# Altium integrated library ALTIUM-WE-PD-rev19a.IntLib: 320 symbols (part 2 of 5)
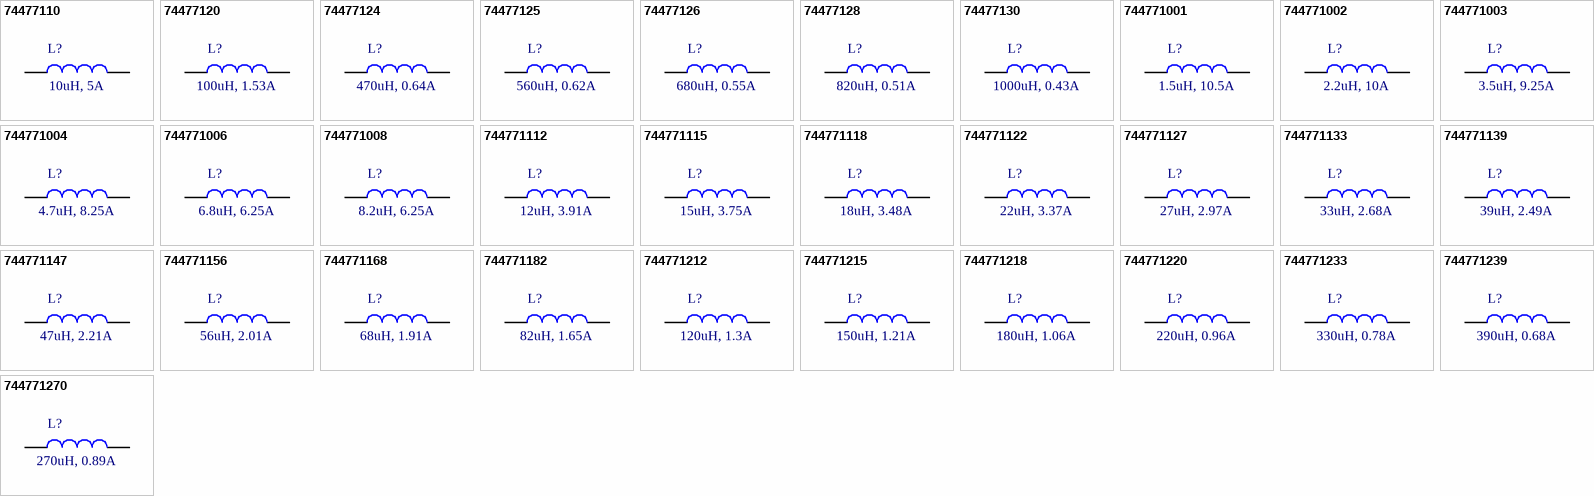
[diagram p15: symbols 74477110 to 744771270]

## 744771127
designator L?, comment 27uH, 2.97A
WE-PD SMT Power Inductor, size 1260, 27uH, 2.97A; Part Number: 744771127; DC Resistance max.: 51mOhm; Self Resonant Frequency: 12MHz; Saturation Current: 3.55A; ComponentLink1Description: Manufacturer; ComponentLink1URL: http://www.we-online.de; ComponentLink2Description: Datasheet; ComponentLink2URL: https://katalog.we-online.com/pbs/datasheet/744771127.pdf; Published Date: April 2019; Publisher: Wurth Elektronik; Rated Current: 2.97A; Size: 1260; Inductance: 27uH; Operating Temperature: -40 to +125degC; Mounting Technology: SMT; Packaging: Tape and Reel
footprint WE-PD_1260
pins: 1, 2

## 744771133
designator L?, comment 33uH, 2.68A
WE-PD SMT Power Inductor, size 1260, 33uH, 2.68A; Part Number: 744771133; DC Resistance max.: 57mOhm; Self Resonant Frequency: 11MHz; Saturation Current: 3A; ComponentLink1Description: Manufacturer; ComponentLink1URL: http://www.we-online.de; ComponentLink2Description: Datasheet; ComponentLink2URL: https://katalog.we-online.com/pbs/datasheet/744771133.pdf; Published Date: April 2019; Publisher: Wurth Elektronik; Rated Current: 2.68A; Size: 1260; Inductance: 33uH; Operating Temperature: -40 to +125degC; Mounting Technology: SMT; Packaging: Tape and Reel
footprint WE-PD_1260
pins: 1, 2

## 744771139
designator L?, comment 39uH, 2.49A
WE-PD SMT Power Inductor, size 1260, 39uH, 2.49A; Part Number: 744771139; DC Resistance max.: 68mOhm; Self Resonant Frequency: 10MHz; Saturation Current: 2.74A; ComponentLink1Description: Manufacturer; ComponentLink1URL: http://www.we-online.de; ComponentLink2Description: Datasheet; ComponentLink2URL: https://katalog.we-online.com/pbs/datasheet/744771139.pdf; Published Date: April 2019; Publisher: Wurth Elektronik; Rated Current: 2.49A; Size: 1260; Inductance: 39uH; Operating Temperature: -40 to +125degC; Mounting Technology: SMT; Packaging: Tape and Reel
footprint WE-PD_1260
pins: 1, 2

## 744771147
designator L?, comment 47uH, 2.21A
WE-PD SMT Power Inductor, size 1260, 47uH, 2.21A; Part Number: 744771147; DC Resistance max.: 75mOhm; Self Resonant Frequency: 9.2MHz; Saturation Current: 2.6A; ComponentLink1Description: Manufacturer; ComponentLink1URL: http://www.we-online.de; ComponentLink2Description: Datasheet; ComponentLink2URL: https://katalog.we-online.com/pbs/datasheet/744771147.pdf; Published Date: April 2019; Publisher: Wurth Elektronik; Rated Current: 2.21A; Size: 1260; Inductance: 47uH; Operating Temperature: -40 to +125degC; Mounting Technology: SMT; Packaging: Tape and Reel
footprint WE-PD_1260
pins: 1, 2

## 744771156
designator L?, comment 56uH, 2.01A
WE-PD SMT Power Inductor, size 1260, 56uH, 2.01A; Part Number: 744771156; DC Resistance max.: 110mOhm; Self Resonant Frequency: 8MHz; Saturation Current: 2.35A; ComponentLink1Description: Manufacturer; ComponentLink1URL: http://www.we-online.de; ComponentLink2Description: Datasheet; ComponentLink2URL: https://katalog.we-online.com/pbs/datasheet/744771156.pdf; Published Date: April 2019; Publisher: Wurth Elektronik; Rated Current: 2.01A; Size: 1260; Inductance: 56uH; Operating Temperature: -40 to +125degC; Mounting Technology: SMT; Packaging: Tape and Reel
footprint WE-PD_1260
pins: 1, 2

## 744771168
designator L?, comment 68uH, 1.91A
WE-PD SMT Power Inductor, size 1260, 68uH, 1.91A; Part Number: 744771168; DC Resistance max.: 120mOhm; Self Resonant Frequency: 7.6MHz; Saturation Current: 2.19A; ComponentLink1Description: Manufacturer; ComponentLink1URL: http://www.we-online.de; ComponentLink2Description: Datasheet; ComponentLink2URL: https://katalog.we-online.com/pbs/datasheet/744771168.pdf; Published Date: April 2019; Publisher: Wurth Elektronik; Rated Current: 1.91A; Size: 1260; Inductance: 68uH; Operating Temperature: -40 to +125degC; Mounting Technology: SMT; Packaging: Tape and Reel
footprint WE-PD_1260
pins: 1, 2

## 744771182
designator L?, comment 82uH, 1.65A
WE-PD SMT Power Inductor, size 1260, 82uH, 1.65A; Part Number: 744771182; DC Resistance max.: 140mOhm; Self Resonant Frequency: 7.2MHz; Saturation Current: 1.88A; ComponentLink1Description: Manufacturer; ComponentLink1URL: http://www.we-online.de; ComponentLink2Description: Datasheet; ComponentLink2URL: https://katalog.we-online.com/pbs/datasheet/744771182.pdf; Published Date: April 2019; Publisher: Wurth Elektronik; Rated Current: 1.65A; Size: 1260; Inductance: 82uH; Operating Temperature: -40 to +125degC; Mounting Technology: SMT; Packaging: Tape and Reel
footprint WE-PD_1260
pins: 1, 2

## 744771212
designator L?, comment 120uH, 1.3A
WE-PD SMT Power Inductor, size 1260, 120uH, 1.3A; Part Number: 744771212; DC Resistance max.: 170mOhm; Self Resonant Frequency: 5.2MHz; Saturation Current: 1.56A; ComponentLink1Description: Manufacturer; ComponentLink1URL: http://www.we-online.de; ComponentLink2Description: Datasheet; ComponentLink2URL: https://katalog.we-online.com/pbs/datasheet/744771212.pdf; Published Date: April 2019; Publisher: Wurth Elektronik; Rated Current: 1.3A; Size: 1260; Inductance: 120uH; Operating Temperature: -40 to +125degC; Mounting Technology: SMT; Packaging: Tape and Reel
footprint WE-PD_1260
pins: 1, 2

## 744771215
designator L?, comment 150uH, 1.21A
WE-PD SMT Power Inductor, size 1260, 150uH, 1.21A; Part Number: 744771215; DC Resistance max.: 230mOhm; Self Resonant Frequency: 4.4MHz; Saturation Current: 1.43A; ComponentLink1Description: Manufacturer; ComponentLink1URL: http://www.we-online.de; ComponentLink2Description: Datasheet; ComponentLink2URL: https://katalog.we-online.com/pbs/datasheet/744771215.pdf; Published Date: April 2019; Publisher: Wurth Elektronik; Rated Current: 1.21A; Size: 1260; Inductance: 150uH; Operating Temperature: -40 to +125degC; Mounting Technology: SMT; Packaging: Tape and Reel
footprint WE-PD_1260
pins: 1, 2

## 744771218
designator L?, comment 180uH, 1.06A
WE-PD SMT Power Inductor, size 1260, 180uH, 1.06A; Part Number: 744771218; DC Resistance max.: 290mOhm; Self Resonant Frequency: 4.1MHz; Saturation Current: 1.24A; ComponentLink1Description: Manufacturer; ComponentLink1URL: http://www.we-online.de; ComponentLink2Description: Datasheet; ComponentLink2URL: https://katalog.we-online.com/pbs/datasheet/744771218.pdf; Published Date: April 2019; Publisher: Wurth Elektronik; Rated Current: 1.06A; Size: 1260; Inductance: 180uH; Operating Temperature: -40 to +125degC; Mounting Technology: SMT; Packaging: Tape and Reel
footprint WE-PD_1260
pins: 1, 2

## 744771220
designator L?, comment 220uH, 0.96A
WE-PD SMT Power Inductor, size 1260, 220uH, 0.96A; Part Number: 744771220; DC Resistance max.: 400mOhm; Self Resonant Frequency: 3.8MHz; Saturation Current: 1.2A; ComponentLink1Description: Manufacturer; ComponentLink1URL: http://www.we-online.de; ComponentLink2Description: Datasheet; ComponentLink2URL: https://katalog.we-online.com/pbs/datasheet/744771220.pdf; Published Date: April 2019; Publisher: Wurth Elektronik; Rated Current: 0.96A; Size: 1260; Inductance: 220uH; Operating Temperature: -40 to +125degC; Mounting Technology: SMT; Packaging: Tape and Reel
footprint WE-PD_1260
pins: 1, 2

## 744771233
designator L?, comment 330uH, 0.78A
WE-PD SMT Power Inductor, size 1260, 330uH, 0.78A; Part Number: 744771233; DC Resistance max.: 510mOhm; Self Resonant Frequency: 3MHz; Saturation Current: 0.97A; ComponentLink1Description: Manufacturer; ComponentLink1URL: http://www.we-online.de; ComponentLink2Description: Datasheet; ComponentLink2URL: https://katalog.we-online.com/pbs/datasheet/744771233.pdf; Published Date: April 2019; Publisher: Wurth Elektronik; Rated Current: 0.78A; Size: 1260; Inductance: 330uH; Operating Temperature: -40 to +125degC; Mounting Technology: SMT; Packaging: Tape and Reel
footprint WE-PD_1260
pins: 1, 2

## 744771239
designator L?, comment 390uH, 0.68A
WE-PD SMT Power Inductor, size 1260, 390uH, 0.68A; Part Number: 744771239; DC Resistance max.: 690mOhm; Self Resonant Frequency: 2.8MHz; Saturation Current: 0.85A; ComponentLink1Description: Manufacturer; ComponentLink1URL: http://www.we-online.de; ComponentLink2Description: Datasheet; ComponentLink2URL: https://katalog.we-online.com/pbs/datasheet/744771239.pdf; Published Date: April 2019; Publisher: Wurth Elektronik; Rated Current: 0.68A; Size: 1260; Inductance: 390uH; Operating Temperature: -40 to +125degC; Mounting Technology: SMT; Packaging: Tape and Reel
footprint WE-PD_1260
pins: 1, 2

## 744771270
designator L?, comment 270uH, 0.89A
WE-PD SMT Power Inductor, size 1260, 270uH, 0.89A; Part Number: 744771270; DC Resistance max.: 460mOhm; Self Resonant Frequency: 3.4MHz; Saturation Current: 1A; ComponentLink1Description: Manufacturer; ComponentLink1URL: http://www.we-online.de; ComponentLink2Description: Datasheet; ComponentLink2URL: https://katalog.we-online.com/pbs/datasheet/744771270.pdf; Published Date: April 2019; Publisher: Wurth Elektronik; Rated Current: 0.89A; Size: 1260; Inductance: 270uH; Operating Temperature: -40 to +125degC; Mounting Technology: SMT; Packaging: Tape and Reel
footprint WE-PD_1260
pins: 1, 2


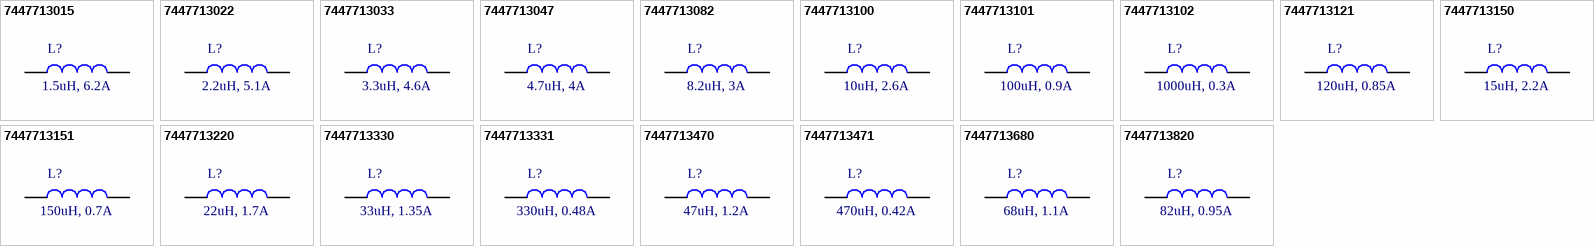
[diagram p4: symbols 7447713015 to 7447713820]

## 7447713015
designator L?, comment 1.5uH, 6.2A
WE-PD SMT Power Inductor, size 1030, 1.5uH, 6.2A; Part Number: 7447713015; DC Resistance max.: 16mOhm; Self Resonant Frequency: 75MHz; Saturation Current: 9.5A; ComponentLink1Description: Manufacturer; ComponentLink1URL: http://www.we-online.de; ComponentLink2Description: Datasheet; ComponentLink2URL: https://katalog.we-online.com/pbs/datasheet/7447713015.pdf; Published Date: April 2019; Publisher: Wurth Elektronik; Rated Current: 6.2A; Size: 1030; Inductance: 1.5uH; Operating Temperature: -40 to +150degC; Mounting Technology: SMT; Packaging: Tape and Reel
footprint WE-PD_1030_Performance
pins: 1, 2

## 7447713022
designator L?, comment 2.2uH, 5.1A
WE-PD SMT Power Inductor, size 1030, 2.2uH, 5.1A; Part Number: 7447713022; DC Resistance max.: 20mOhm; Self Resonant Frequency: 71MHz; Saturation Current: 8.5A; ComponentLink1Description: Manufacturer; ComponentLink1URL: http://www.we-online.de; ComponentLink2Description: Datasheet; ComponentLink2URL: https://katalog.we-online.com/pbs/datasheet/7447713022.pdf; Published Date: April 2019; Publisher: Wurth Elektronik; Rated Current: 5.1A; Size: 1030; Inductance: 2.2uH; Operating Temperature: -40 to +150degC; Mounting Technology: SMT; Packaging: Tape and Reel
footprint WE-PD_1030_Performance
pins: 1, 2

## 7447713033
designator L?, comment 3.3uH, 4.6A
WE-PD SMT Power Inductor, size 1030, 3.3uH, 4.6A; Part Number: 7447713033; DC Resistance max.: 24mOhm; Self Resonant Frequency: 50MHz; Saturation Current: 7.2A; ComponentLink1Description: Manufacturer; ComponentLink1URL: http://www.we-online.de; ComponentLink2Description: Datasheet; ComponentLink2URL: https://katalog.we-online.com/pbs/datasheet/7447713033.pdf; Published Date: April 2019; Publisher: Wurth Elektronik; Rated Current: 4.6A; Size: 1030; Inductance: 3.3uH; Operating Temperature: -40 to +150degC; Mounting Technology: SMT; Packaging: Tape and Reel
footprint WE-PD_1030_Performance
pins: 1, 2

## 7447713047
designator L?, comment 4.7uH, 4A
WE-PD SMT Power Inductor, size 1030, 4.7uH, 4A; Part Number: 7447713047; DC Resistance max.: 31mOhm; Self Resonant Frequency: 42MHz; Saturation Current: 6A; ComponentLink1Description: Manufacturer; ComponentLink1URL: http://www.we-online.de; ComponentLink2Description: Datasheet; ComponentLink2URL: https://katalog.we-online.com/pbs/datasheet/7447713047.pdf; Published Date: April 2019; Publisher: Wurth Elektronik; Rated Current: 4A; Size: 1030; Inductance: 4.7uH; Operating Temperature: -40 to +150degC; Mounting Technology: SMT; Packaging: Tape and Reel
footprint WE-PD_1030_Performance
pins: 1, 2

## 7447713082
designator L?, comment 8.2uH, 3A
WE-PD SMT Power Inductor, size 1030, 8.2uH, 3A; Part Number: 7447713082; DC Resistance max.: 49mOhm; Self Resonant Frequency: 30MHz; Saturation Current: 4.7A; ComponentLink1Description: Manufacturer; ComponentLink1URL: http://www.we-online.de; ComponentLink2Description: Datasheet; ComponentLink2URL: https://katalog.we-online.com/pbs/datasheet/7447713082.pdf; Published Date: April 2019; Publisher: Wurth Elektronik; Rated Current: 3A; Size: 1030; Inductance: 8.2uH; Operating Temperature: -40 to +150degC; Mounting Technology: SMT; Packaging: Tape and Reel
footprint WE-PD_1030_Performance
pins: 1, 2

## 7447713100
designator L?, comment 10uH, 2.6A
WE-PD SMT Power Inductor, size 1030, 10uH, 2.6A; Part Number: 7447713100; DC Resistance max.: 62mOhm; Self Resonant Frequency: 25MHz; Saturation Current: 4.1A; ComponentLink1Description: Manufacturer; ComponentLink1URL: http://www.we-online.de; ComponentLink2Description: Datasheet; ComponentLink2URL: https://katalog.we-online.com/pbs/datasheet/7447713100.pdf; Published Date: April 2019; Publisher: Wurth Elektronik; Rated Current: 2.6A; Size: 1030; Inductance: 10uH; Operating Temperature: -40 to +150degC; Mounting Technology: SMT; Packaging: Tape and Reel
footprint WE-PD_1030_Performance
pins: 1, 2

## 7447713101
designator L?, comment 100uH, 0.9A
WE-PD SMT Power Inductor, size 1030, 100uH, 0.9A; Part Number: 7447713101; DC Resistance max.: 478mOhm; Self Resonant Frequency: 7.7MHz; Saturation Current: 1.4A; ComponentLink1Description: Manufacturer; ComponentLink1URL: http://www.we-online.de; ComponentLink2Description: Datasheet; ComponentLink2URL: https://katalog.we-online.com/pbs/datasheet/7447713101.pdf; Published Date: April 2019; Publisher: Wurth Elektronik; Rated Current: 0.9A; Size: 1030; Inductance: 100uH; Operating Temperature: -40 to +150degC; Mounting Technology: SMT; Packaging: Tape and Reel
footprint WE-PD_1030_Performance
pins: 1, 2

## 7447713102
designator L?, comment 1000uH, 0.3A
WE-PD SMT Power Inductor, size 1030, 1000uH, 0.3A; Part Number: 7447713102; DC Resistance max.: 4600mOhm; Self Resonant Frequency: 2.3MHz; Saturation Current: 0.45A; ComponentLink1Description: Manufacturer; ComponentLink1URL: http://www.we-online.de; ComponentLink2Description: Datasheet; ComponentLink2URL: https://katalog.we-online.com/pbs/datasheet/7447713102.pdf; Published Date: April 2019; Publisher: Wurth Elektronik; Rated Current: 0.3A; Size: 1030; Inductance: 1000uH; Operating Temperature: -40 to +150degC; Mounting Technology: SMT; Packaging: Tape and Reel
footprint WE-PD_1030_Performance
pins: 1, 2

## 7447713121
designator L?, comment 120uH, 0.85A
WE-PD SMT Power Inductor, size 1030, 120uH, 0.85A; Part Number: 7447713121; DC Resistance max.: 598mOhm; Self Resonant Frequency: 7MHz; Saturation Current: 1.25A; ComponentLink1Description: Manufacturer; ComponentLink1URL: http://www.we-online.de; ComponentLink2Description: Datasheet; ComponentLink2URL: https://katalog.we-online.com/pbs/datasheet/7447713121.pdf; Published Date: April 2019; Publisher: Wurth Elektronik; Rated Current: 0.85A; Size: 1030; Inductance: 120uH; Operating Temperature: -40 to +150degC; Mounting Technology: SMT; Packaging: Tape and Reel
footprint WE-PD_1030_Performance
pins: 1, 2

## 7447713150
designator L?, comment 15uH, 2.2A
WE-PD SMT Power Inductor, size 1030, 15uH, 2.2A; Part Number: 7447713150; DC Resistance max.: 89mOhm; Self Resonant Frequency: 19.5MHz; Saturation Current: 3.4A; ComponentLink1Description: Manufacturer; ComponentLink1URL: http://www.we-online.de; ComponentLink2Description: Datasheet; ComponentLink2URL: https://katalog.we-online.com/pbs/datasheet/7447713150.pdf; Published Date: April 2019; Publisher: Wurth Elektronik; Rated Current: 2.2A; Size: 1030; Inductance: 15uH; Operating Temperature: -40 to +150degC; Mounting Technology: SMT; Packaging: Tape and Reel
footprint WE-PD_1030_Performance
pins: 1, 2

## 7447713151
designator L?, comment 150uH, 0.7A
WE-PD SMT Power Inductor, size 1030, 150uH, 0.7A; Part Number: 7447713151; DC Resistance max.: 684mOhm; Self Resonant Frequency: 6.1MHz; Saturation Current: 1.1A; ComponentLink1Description: Manufacturer; ComponentLink1URL: http://www.we-online.de; ComponentLink2Description: Datasheet; ComponentLink2URL: https://katalog.we-online.com/pbs/datasheet/7447713151.pdf; Published Date: April 2019; Publisher: Wurth Elektronik; Rated Current: 0.7A; Size: 1030; Inductance: 150uH; Operating Temperature: -40 to +150degC; Mounting Technology: SMT; Packaging: Tape and Reel
footprint WE-PD_1030_Performance
pins: 1, 2

## 7447713220
designator L?, comment 22uH, 1.7A
WE-PD SMT Power Inductor, size 1030, 22uH, 1.7A; Part Number: 7447713220; DC Resistance max.: 133mOhm; Self Resonant Frequency: 17.5MHz; Saturation Current: 2.7A; ComponentLink1Description: Manufacturer; ComponentLink1URL: http://www.we-online.de; ComponentLink2Description: Datasheet; ComponentLink2URL: https://katalog.we-online.com/pbs/datasheet/7447713220.pdf; Published Date: April 2019; Publisher: Wurth Elektronik; Rated Current: 1.7A; Size: 1030; Inductance: 22uH; Operating Temperature: -40 to +150degC; Mounting Technology: SMT; Packaging: Tape and Reel
footprint WE-PD_1030_Performance
pins: 1, 2

## 7447713330
designator L?, comment 33uH, 1.35A
WE-PD SMT Power Inductor, size 1030, 33uH, 1.35A; Part Number: 7447713330; DC Resistance max.: 204mOhm; Self Resonant Frequency: 13MHz; Saturation Current: 2.2A; ComponentLink1Description: Manufacturer; ComponentLink1URL: http://www.we-online.de; ComponentLink2Description: Datasheet; ComponentLink2URL: https://katalog.we-online.com/pbs/datasheet/7447713330.pdf; Published Date: April 2019; Publisher: Wurth Elektronik; Rated Current: 1.35A; Size: 1030; Inductance: 33uH; Operating Temperature: -40 to +150degC; Mounting Technology: SMT; Packaging: Tape and Reel
footprint WE-PD_1030_Performance
pins: 1, 2

## 7447713331
designator L?, comment 330uH, 0.48A
WE-PD SMT Power Inductor, size 1030, 330uH, 0.48A; Part Number: 7447713331; DC Resistance max.: 1500mOhm; Self Resonant Frequency: 4.3MHz; Saturation Current: 0.73A; ComponentLink1Description: Manufacturer; ComponentLink1URL: http://www.we-online.de; ComponentLink2Description: Datasheet; ComponentLink2URL: https://katalog.we-online.com/pbs/datasheet/7447713331.pdf; Published Date: April 2019; Publisher: Wurth Elektronik; Rated Current: 0.48A; Size: 1030; Inductance: 330uH; Operating Temperature: -40 to +150degC; Mounting Technology: SMT; Packaging: Tape and Reel
footprint WE-PD_1030_Performance
pins: 1, 2

## 7447713470
designator L?, comment 47uH, 1.2A
WE-PD SMT Power Inductor, size 1030, 47uH, 1.2A; Part Number: 7447713470; DC Resistance max.: 248mOhm; Self Resonant Frequency: 11.4MHz; Saturation Current: 1.9A; ComponentLink1Description: Manufacturer; ComponentLink1URL: http://www.we-online.de; ComponentLink2Description: Datasheet; ComponentLink2URL: https://katalog.we-online.com/pbs/datasheet/7447713470.pdf; Published Date: April 2019; Publisher: Wurth Elektronik; Rated Current: 1.2A; Size: 1030; Inductance: 47uH; Operating Temperature: -40 to +150degC; Mounting Technology: SMT; Packaging: Tape and Reel
footprint WE-PD_1030_Performance
pins: 1, 2

## 7447713471
designator L?, comment 470uH, 0.42A
WE-PD SMT Power Inductor, size 1030, 470uH, 0.42A; Part Number: 7447713471; DC Resistance max.: 2200mOhm; Self Resonant Frequency: 3.4MHz; Saturation Current: 0.65A; ComponentLink1Description: Manufacturer; ComponentLink1URL: http://www.we-online.de; ComponentLink2Description: Datasheet; ComponentLink2URL: https://katalog.we-online.com/pbs/datasheet/7447713471.pdf; Published Date: April 2019; Publisher: Wurth Elektronik; Rated Current: 0.42A; Size: 1030; Inductance: 470uH; Operating Temperature: -40 to +150degC; Mounting Technology: SMT; Packaging: Tape and Reel
footprint WE-PD_1030_Performance
pins: 1, 2

## 7447713680
designator L?, comment 68uH, 1.1A
WE-PD SMT Power Inductor, size 1030, 68uH, 1.1A; Part Number: 7447713680; DC Resistance max.: 330mOhm; Self Resonant Frequency: 9.4MHz; Saturation Current: 1.6A; ComponentLink1Description: Manufacturer; ComponentLink1URL: http://www.we-online.de; ComponentLink2Description: Datasheet; ComponentLink2URL: https://katalog.we-online.com/pbs/datasheet/7447713680.pdf; Published Date: April 2019; Publisher: Wurth Elektronik; Rated Current: 1.1A; Size: 1030; Inductance: 68uH; Operating Temperature: -40 to +150degC; Mounting Technology: SMT; Packaging: Tape and Reel
footprint WE-PD_1030_Performance
pins: 1, 2

## 7447713820
designator L?, comment 82uH, 0.95A
WE-PD SMT Power Inductor, size 1030, 82uH, 0.95A; Part Number: 7447713820; DC Resistance max.: 419mOhm; Self Resonant Frequency: 8.8MHz; Saturation Current: 1.5A; ComponentLink1Description: Manufacturer; ComponentLink1URL: http://www.we-online.de; ComponentLink2Description: Datasheet; ComponentLink2URL: https://katalog.we-online.com/pbs/datasheet/7447713820.pdf; Published Date: April 2019; Publisher: Wurth Elektronik; Rated Current: 0.95A; Size: 1030; Inductance: 82uH; Operating Temperature: -40 to +150degC; Mounting Technology: SMT; Packaging: Tape and Reel
footprint WE-PD_1030_Performance
pins: 1, 2


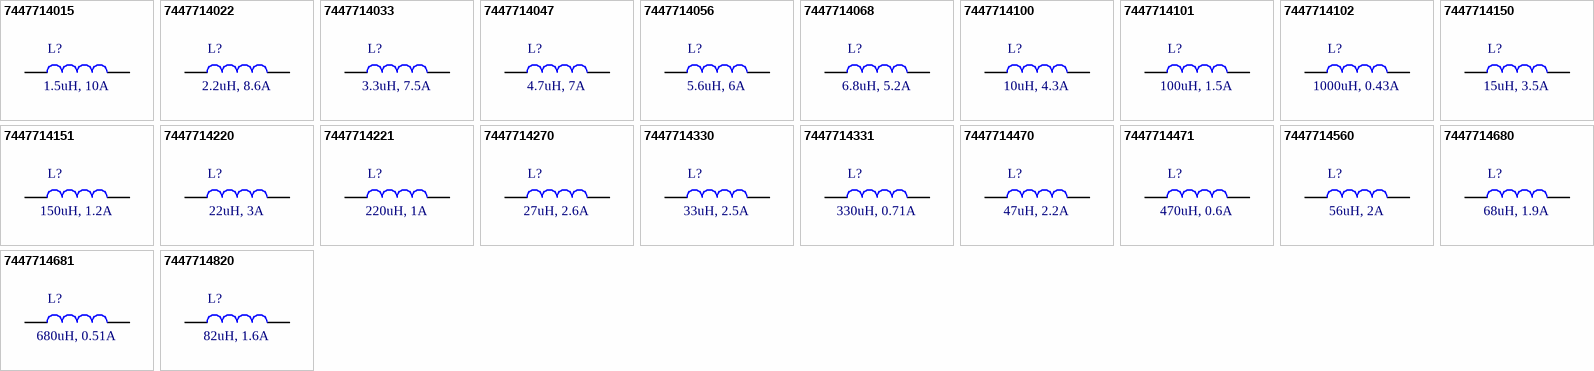
[diagram p5: symbols 7447714015 to 7447714820]

## 7447714015
designator L?, comment 1.5uH, 10A
WE-PD SMT Power Inductor, size 1050, 1.5uH, 10A; Part Number: 7447714015; DC Resistance max.: 6.6mOhm; Self Resonant Frequency: 69MHz; Saturation Current: 12.5A; ComponentLink1Description: Manufacturer; ComponentLink1URL: http://www.we-online.de; ComponentLink2Description: Datasheet; ComponentLink2URL: https://katalog.we-online.com/pbs/datasheet/7447714015.pdf; Published Date: April 2019; Publisher: Wurth Elektronik; Rated Current: 10A; Size: 1050; Inductance: 1.5uH; Operating Temperature: -40 to +150degC; Mounting Technology: SMT; Packaging: Tape and Reel
footprint WE-PD_1050_Performance
pins: 1, 2

## 7447714022
designator L?, comment 2.2uH, 8.6A
WE-PD SMT Power Inductor, size 1050, 2.2uH, 8.6A; Part Number: 7447714022; DC Resistance max.: 8mOhm; Self Resonant Frequency: 53MHz; Saturation Current: 9.5A; ComponentLink1Description: Manufacturer; ComponentLink1URL: http://www.we-online.de; ComponentLink2Description: Datasheet; ComponentLink2URL: https://katalog.we-online.com/pbs/datasheet/7447714022.pdf; Published Date: April 2019; Publisher: Wurth Elektronik; Rated Current: 8.6A; Size: 1050; Inductance: 2.2uH; Operating Temperature: -40 to +150degC; Mounting Technology: SMT; Packaging: Tape and Reel
footprint WE-PD_1050_Performance
pins: 1, 2

## 7447714033
designator L?, comment 3.3uH, 7.5A
WE-PD SMT Power Inductor, size 1050, 3.3uH, 7.5A; Part Number: 7447714033; DC Resistance max.: 10.5mOhm; Self Resonant Frequency: 42MHz; Saturation Current: 9A; ComponentLink1Description: Manufacturer; ComponentLink1URL: http://www.we-online.de; ComponentLink2Description: Datasheet; ComponentLink2URL: https://katalog.we-online.com/pbs/datasheet/7447714033.pdf; Published Date: April 2019; Publisher: Wurth Elektronik; Rated Current: 7.5A; Size: 1050; Inductance: 3.3uH; Operating Temperature: -40 to +150degC; Mounting Technology: SMT; Packaging: Tape and Reel
footprint WE-PD_1050_Performance
pins: 1, 2

## 7447714047
designator L?, comment 4.7uH, 7A
WE-PD SMT Power Inductor, size 1050, 4.7uH, 7A; Part Number: 7447714047; DC Resistance max.: 12.4mOhm; Self Resonant Frequency: 34MHz; Saturation Current: 8A; ComponentLink1Description: Manufacturer; ComponentLink1URL: http://www.we-online.de; ComponentLink2Description: Datasheet; ComponentLink2URL: https://katalog.we-online.com/pbs/datasheet/7447714047.pdf; Published Date: April 2019; Publisher: Wurth Elektronik; Rated Current: 7A; Size: 1050; Inductance: 4.7uH; Operating Temperature: -40 to +150degC; Mounting Technology: SMT; Packaging: Tape and Reel
footprint WE-PD_1050_Performance
pins: 1, 2

## 7447714056
designator L?, comment 5.6uH, 6A
WE-PD SMT Power Inductor, size 1050, 5.6uH, 6A; Part Number: 7447714056; DC Resistance max.: 14.4mOhm; Self Resonant Frequency: 28MHz; Saturation Current: 7.2A; ComponentLink1Description: Manufacturer; ComponentLink1URL: http://www.we-online.de; ComponentLink2Description: Datasheet; ComponentLink2URL: https://katalog.we-online.com/pbs/datasheet/7447714056.pdf; Published Date: April 2019; Publisher: Wurth Elektronik; Rated Current: 6A; Size: 1050; Inductance: 5.6uH; Operating Temperature: -40 to +150degC; Mounting Technology: SMT; Packaging: Tape and Reel
footprint WE-PD_1050_Performance
pins: 1, 2

## 7447714068
designator L?, comment 6.8uH, 5.2A
WE-PD SMT Power Inductor, size 1050, 6.8uH, 5.2A; Part Number: 7447714068; DC Resistance max.: 22mOhm; Self Resonant Frequency: 23.5MHz; Saturation Current: 5.8A; ComponentLink1Description: Manufacturer; ComponentLink1URL: http://www.we-online.de; ComponentLink2Description: Datasheet; ComponentLink2URL: https://katalog.we-online.com/pbs/datasheet/7447714068.pdf; Published Date: April 2019; Publisher: Wurth Elektronik; Rated Current: 5.2A; Size: 1050; Inductance: 6.8uH; Operating Temperature: -40 to +150degC; Mounting Technology: SMT; Packaging: Tape and Reel
footprint WE-PD_1050_Performance
pins: 1, 2

## 7447714100
designator L?, comment 10uH, 4.3A
WE-PD SMT Power Inductor, size 1050, 10uH, 4.3A; Part Number: 7447714100; DC Resistance max.: 27mOhm; Self Resonant Frequency: 20.5MHz; Saturation Current: 5A; ComponentLink1Description: Manufacturer; ComponentLink1URL: http://www.we-online.de; ComponentLink2Description: Datasheet; ComponentLink2URL: https://katalog.we-online.com/pbs/datasheet/7447714100.pdf; Published Date: April 2019; Publisher: Wurth Elektronik; Rated Current: 4.3A; Size: 1050; Inductance: 10uH; Operating Temperature: -40 to +150degC; Mounting Technology: SMT; Packaging: Tape and Reel
footprint WE-PD_1050_Performance
pins: 1, 2

## 7447714101
designator L?, comment 100uH, 1.5A
WE-PD SMT Power Inductor, size 1050, 100uH, 1.5A; Part Number: 7447714101; DC Resistance max.: 198mOhm; Self Resonant Frequency: 5.9MHz; Saturation Current: 1.8A; ComponentLink1Description: Manufacturer; ComponentLink1URL: http://www.we-online.de; ComponentLink2Description: Datasheet; ComponentLink2URL: https://katalog.we-online.com/pbs/datasheet/7447714101.pdf; Published Date: April 2019; Publisher: Wurth Elektronik; Rated Current: 1.5A; Size: 1050; Inductance: 100uH; Operating Temperature: -40 to +150degC; Mounting Technology: SMT; Packaging: Tape and Reel
footprint WE-PD_1050_Performance
pins: 1, 2

## 7447714102
designator L?, comment 1000uH, 0.43A
WE-PD SMT Power Inductor, size 1050, 1000uH, 0.43A; Part Number: 7447714102; DC Resistance max.: 2050mOhm; Self Resonant Frequency: 1.7MHz; Saturation Current: 0.55A; ComponentLink1Description: Manufacturer; ComponentLink1URL: http://www.we-online.de; ComponentLink2Description: Datasheet; ComponentLink2URL: https://katalog.we-online.com/pbs/datasheet/7447714102.pdf; Published Date: April 2019; Publisher: Wurth Elektronik; Rated Current: 0.43A; Size: 1050; Inductance: 1000uH; Operating Temperature: -40 to +150degC; Mounting Technology: SMT; Packaging: Tape and Reel
footprint WE-PD_1050_Performance
pins: 1, 2

## 7447714150
designator L?, comment 15uH, 3.5A
WE-PD SMT Power Inductor, size 1050, 15uH, 3.5A; Part Number: 7447714150; DC Resistance max.: 43mOhm; Self Resonant Frequency: 16.8MHz; Saturation Current: 4.1A; ComponentLink1Description: Manufacturer; ComponentLink1URL: http://www.we-online.de; ComponentLink2Description: Datasheet; ComponentLink2URL: https://katalog.we-online.com/pbs/datasheet/7447714150.pdf; Published Date: April 2019; Publisher: Wurth Elektronik; Rated Current: 3.5A; Size: 1050; Inductance: 15uH; Operating Temperature: -40 to +150degC; Mounting Technology: SMT; Packaging: Tape and Reel
footprint WE-PD_1050_Performance
pins: 1, 2

## 7447714151
designator L?, comment 150uH, 1.2A
WE-PD SMT Power Inductor, size 1050, 150uH, 1.2A; Part Number: 7447714151; DC Resistance max.: 300mOhm; Self Resonant Frequency: 4.9MHz; Saturation Current: 1.4A; ComponentLink1Description: Manufacturer; ComponentLink1URL: http://www.we-online.de; ComponentLink2Description: Datasheet; ComponentLink2URL: https://katalog.we-online.com/pbs/datasheet/7447714151.pdf; Published Date: April 2019; Publisher: Wurth Elektronik; Rated Current: 1.2A; Size: 1050; Inductance: 150uH; Operating Temperature: -40 to +150degC; Mounting Technology: SMT; Packaging: Tape and Reel
footprint WE-PD_1050_Performance
pins: 1, 2

## 7447714220
designator L?, comment 22uH, 3A
WE-PD SMT Power Inductor, size 1050, 22uH, 3A; Part Number: 7447714220; DC Resistance max.: 50mOhm; Self Resonant Frequency: 14.5MHz; Saturation Current: 3.6A; ComponentLink1Description: Manufacturer; ComponentLink1URL: http://www.we-online.de; ComponentLink2Description: Datasheet; ComponentLink2URL: https://katalog.we-online.com/pbs/datasheet/7447714220.pdf; Published Date: April 2019; Publisher: Wurth Elektronik; Rated Current: 3A; Size: 1050; Inductance: 22uH; Operating Temperature: -40 to +150degC; Mounting Technology: SMT; Packaging: Tape and Reel
footprint WE-PD_1050_Performance
pins: 1, 2

## 7447714221
designator L?, comment 220uH, 1A
WE-PD SMT Power Inductor, size 1050, 220uH, 1A; Part Number: 7447714221; DC Resistance max.: 439mOhm; Self Resonant Frequency: 4.3MHz; Saturation Current: 1.2A; ComponentLink1Description: Manufacturer; ComponentLink1URL: http://www.we-online.de; ComponentLink2Description: Datasheet; ComponentLink2URL: https://katalog.we-online.com/pbs/datasheet/7447714221.pdf; Published Date: April 2019; Publisher: Wurth Elektronik; Rated Current: 1A; Size: 1050; Inductance: 220uH; Operating Temperature: -40 to +150degC; Mounting Technology: SMT; Packaging: Tape and Reel
footprint WE-PD_1050_Performance
pins: 1, 2

## 7447714270
designator L?, comment 27uH, 2.6A
WE-PD SMT Power Inductor, size 1050, 27uH, 2.6A; Part Number: 7447714270; DC Resistance max.: 74mOhm; Self Resonant Frequency: 14MHz; Saturation Current: 3.4A; ComponentLink1Description: Manufacturer; ComponentLink1URL: http://www.we-online.de; ComponentLink2Description: Datasheet; ComponentLink2URL: https://katalog.we-online.com/pbs/datasheet/7447714270.pdf; Published Date: April 2019; Publisher: Wurth Elektronik; Rated Current: 2.6A; Size: 1050; Inductance: 27uH; Operating Temperature: -40 to +150degC; Mounting Technology: SMT; Packaging: Tape and Reel
footprint WE-PD_1050_Performance
pins: 1, 2

## 7447714330
designator L?, comment 33uH, 2.5A
WE-PD SMT Power Inductor, size 1050, 33uH, 2.5A; Part Number: 7447714330; DC Resistance max.: 79mOhm; Self Resonant Frequency: 11.1MHz; Saturation Current: 2.9A; ComponentLink1Description: Manufacturer; ComponentLink1URL: http://www.we-online.de; ComponentLink2Description: Datasheet; ComponentLink2URL: https://katalog.we-online.com/pbs/datasheet/7447714330.pdf; Published Date: April 2019; Publisher: Wurth Elektronik; Rated Current: 2.5A; Size: 1050; Inductance: 33uH; Operating Temperature: -40 to +150degC; Mounting Technology: SMT; Packaging: Tape and Reel
footprint WE-PD_1050_Performance
pins: 1, 2

## 7447714331
designator L?, comment 330uH, 0.71A
WE-PD SMT Power Inductor, size 1050, 330uH, 0.71A; Part Number: 7447714331; DC Resistance max.: 750mOhm; Self Resonant Frequency: 3.15MHz; Saturation Current: 1A; ComponentLink1Description: Manufacturer; ComponentLink1URL: http://www.we-online.de; ComponentLink2Description: Datasheet; ComponentLink2URL: https://katalog.we-online.com/pbs/datasheet/7447714331.pdf; Published Date: April 2019; Publisher: Wurth Elektronik; Rated Current: 0.71A; Size: 1050; Inductance: 330uH; Operating Temperature: -40 to +150degC; Mounting Technology: SMT; Packaging: Tape and Reel
footprint WE-PD_1050_Performance
pins: 1, 2

## 7447714470
designator L?, comment 47uH, 2.2A
WE-PD SMT Power Inductor, size 1050, 47uH, 2.2A; Part Number: 7447714470; DC Resistance max.: 99mOhm; Self Resonant Frequency: 8.8MHz; Saturation Current: 2.5A; ComponentLink1Description: Manufacturer; ComponentLink1URL: http://www.we-online.de; ComponentLink2Description: Datasheet; ComponentLink2URL: https://katalog.we-online.com/pbs/datasheet/7447714470.pdf; Published Date: April 2019; Publisher: Wurth Elektronik; Rated Current: 2.2A; Size: 1050; Inductance: 47uH; Operating Temperature: -40 to +150degC; Mounting Technology: SMT; Packaging: Tape and Reel
footprint WE-PD_1050_Performance
pins: 1, 2

## 7447714471
designator L?, comment 470uH, 0.6A
WE-PD SMT Power Inductor, size 1050, 470uH, 0.6A; Part Number: 7447714471; DC Resistance max.: 1100mOhm; Self Resonant Frequency: 2.5MHz; Saturation Current: 0.82A; ComponentLink1Description: Manufacturer; ComponentLink1URL: http://www.we-online.de; ComponentLink2Description: Datasheet; ComponentLink2URL: https://katalog.we-online.com/pbs/datasheet/7447714471.pdf; Published Date: April 2019; Publisher: Wurth Elektronik; Rated Current: 0.6A; Size: 1050; Inductance: 470uH; Operating Temperature: -40 to +150degC; Mounting Technology: SMT; Packaging: Tape and Reel
footprint WE-PD_1050_Performance
pins: 1, 2

## 7447714560
designator L?, comment 56uH, 2A
WE-PD SMT Power Inductor, size 1050, 56uH, 2A; Part Number: 7447714560; DC Resistance max.: 121mOhm; Self Resonant Frequency: 8.6MHz; Saturation Current: 2.3A; ComponentLink1Description: Manufacturer; ComponentLink1URL: http://www.we-online.de; ComponentLink2Description: Datasheet; ComponentLink2URL: https://katalog.we-online.com/pbs/datasheet/7447714560.pdf; Published Date: April 2019; Publisher: Wurth Elektronik; Rated Current: 2A; Size: 1050; Inductance: 56uH; Operating Temperature: -40 to +150degC; Mounting Technology: SMT; Packaging: Tape and Reel
footprint WE-PD_1050_Performance
pins: 1, 2

## 7447714680
designator L?, comment 68uH, 1.9A
WE-PD SMT Power Inductor, size 1050, 68uH, 1.9A; Part Number: 7447714680; DC Resistance max.: 132mOhm; Self Resonant Frequency: 8MHz; Saturation Current: 2.2A; ComponentLink1Description: Manufacturer; ComponentLink1URL: http://www.we-online.de; ComponentLink2Description: Datasheet; ComponentLink2URL: https://katalog.we-online.com/pbs/datasheet/7447714680.pdf; Published Date: April 2019; Publisher: Wurth Elektronik; Rated Current: 1.9A; Size: 1050; Inductance: 68uH; Operating Temperature: -40 to +150degC; Mounting Technology: SMT; Packaging: Tape and Reel
footprint WE-PD_1050_Performance
pins: 1, 2

## 7447714681
designator L?, comment 680uH, 0.51A
WE-PD SMT Power Inductor, size 1050, 680uH, 0.51A; Part Number: 7447714681; DC Resistance max.: 1220mOhm; Self Resonant Frequency: 2.05MHz; Saturation Current: 0.71A; ComponentLink1Description: Manufacturer; ComponentLink1URL: http://www.we-online.de; ComponentLink2Description: Datasheet; ComponentLink2URL: https://katalog.we-online.com/pbs/datasheet/7447714681.pdf; Published Date: April 2019; Publisher: Wurth Elektronik; Rated Current: 0.51A; Size: 1050; Inductance: 680uH; Operating Temperature: -40 to +150degC; Mounting Technology: SMT; Packaging: Tape and Reel
footprint WE-PD_1050_Performance
pins: 1, 2

## 7447714820
designator L?, comment 82uH, 1.6A
WE-PD SMT Power Inductor, size 1050, 82uH, 1.6A; Part Number: 7447714820; DC Resistance max.: 176mOhm; Self Resonant Frequency: 6.6MHz; Saturation Current: 1.9A; ComponentLink1Description: Manufacturer; ComponentLink1URL: http://www.we-online.de; ComponentLink2Description: Datasheet; ComponentLink2URL: https://katalog.we-online.com/pbs/datasheet/7447714820.pdf; Published Date: April 2019; Publisher: Wurth Elektronik; Rated Current: 1.6A; Size: 1050; Inductance: 82uH; Operating Temperature: -40 to +150degC; Mounting Technology: SMT; Packaging: Tape and Reel
footprint WE-PD_1050_Performance
pins: 1, 2


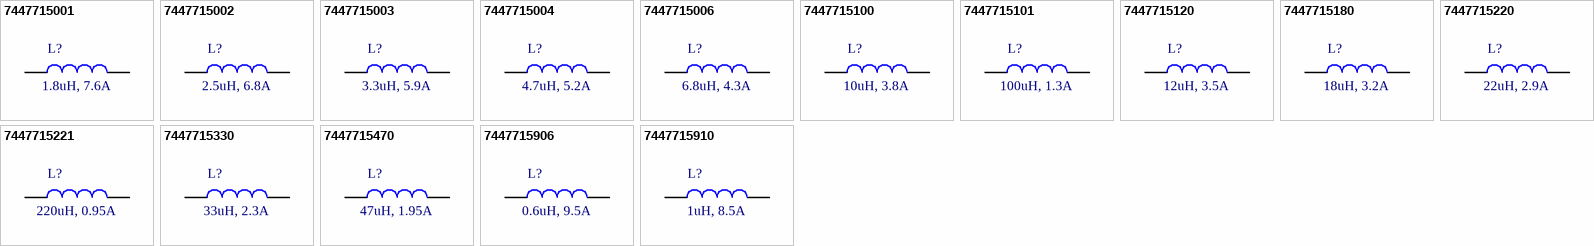
[diagram p6: symbols 7447715001 to 7447715910]

## 7447715001
designator L?, comment 1.8uH, 7.6A
WE-PD SMT Power Inductor, size 1245, 1.8uH, 7.6A; Part Number: 7447715001; DC Resistance max.: 9.5mOhm; Self Resonant Frequency: 76MHz; Saturation Current: 10.2A; ComponentLink1Description: Manufacturer; ComponentLink1URL: http://www.we-online.de; ComponentLink2Description: Datasheet; ComponentLink2URL: https://katalog.we-online.com/pbs/datasheet/7447715001.pdf; Published Date: April 2019; Publisher: Wurth Elektronik; Rated Current: 7.6A; Size: 1245; Inductance: 1.8uH; Operating Temperature: -40 to +125degC; Mounting Technology: SMT; Packaging: Tape and Reel
footprint WE-PD_1245
pins: 1, 2

## 7447715002
designator L?, comment 2.5uH, 6.8A
WE-PD SMT Power Inductor, size 1245, 2.5uH, 6.8A; Part Number: 7447715002; DC Resistance max.: 11mOhm; Self Resonant Frequency: 50MHz; Saturation Current: 8.5A; ComponentLink1Description: Manufacturer; ComponentLink1URL: http://www.we-online.de; ComponentLink2Description: Datasheet; ComponentLink2URL: https://katalog.we-online.com/pbs/datasheet/7447715002.pdf; Published Date: April 2019; Publisher: Wurth Elektronik; Rated Current: 6.8A; Size: 1245; Inductance: 2.5uH; Operating Temperature: -40 to +125degC; Mounting Technology: SMT; Packaging: Tape and Reel
footprint WE-PD_1245
pins: 1, 2

## 7447715003
designator L?, comment 3.3uH, 5.9A
WE-PD SMT Power Inductor, size 1245, 3.3uH, 5.9A; Part Number: 7447715003; DC Resistance max.: 13mOhm; Self Resonant Frequency: 40MHz; Saturation Current: 7.1A; ComponentLink1Description: Manufacturer; ComponentLink1URL: http://www.we-online.de; ComponentLink2Description: Datasheet; ComponentLink2URL: https://katalog.we-online.com/pbs/datasheet/7447715003.pdf; Published Date: April 2019; Publisher: Wurth Elektronik; Rated Current: 5.9A; Size: 1245; Inductance: 3.3uH; Operating Temperature: -40 to +125degC; Mounting Technology: SMT; Packaging: Tape and Reel
footprint WE-PD_1245
pins: 1, 2

## 7447715004
designator L?, comment 4.7uH, 5.2A
WE-PD SMT Power Inductor, size 1245, 4.7uH, 5.2A; Part Number: 7447715004; DC Resistance max.: 16mOhm; Self Resonant Frequency: 37MHz; Saturation Current: 6.3A; ComponentLink1Description: Manufacturer; ComponentLink1URL: http://www.we-online.de; ComponentLink2Description: Datasheet; ComponentLink2URL: https://katalog.we-online.com/pbs/datasheet/7447715004.pdf; Published Date: April 2019; Publisher: Wurth Elektronik; Rated Current: 5.2A; Size: 1245; Inductance: 4.7uH; Operating Temperature: -40 to +125degC; Mounting Technology: SMT; Packaging: Tape and Reel
footprint WE-PD_1245
pins: 1, 2

## 7447715006
designator L?, comment 6.8uH, 4.3A
WE-PD SMT Power Inductor, size 1245, 6.8uH, 4.3A; Part Number: 7447715006; DC Resistance max.: 25mOhm; Self Resonant Frequency: 27MHz; Saturation Current: 4.7A; ComponentLink1Description: Manufacturer; ComponentLink1URL: http://www.we-online.de; ComponentLink2Description: Datasheet; ComponentLink2URL: https://katalog.we-online.com/pbs/datasheet/7447715006.pdf; Published Date: April 2019; Publisher: Wurth Elektronik; Rated Current: 4.3A; Size: 1245; Inductance: 6.8uH; Operating Temperature: -40 to +125degC; Mounting Technology: SMT; Packaging: Tape and Reel
footprint WE-PD_1245
pins: 1, 2

## 7447715100
designator L?, comment 10uH, 3.8A
WE-PD SMT Power Inductor, size 1245, 10uH, 3.8A; Part Number: 7447715100; DC Resistance max.: 30mOhm; Self Resonant Frequency: 22MHz; Saturation Current: 4.2A; ComponentLink1Description: Manufacturer; ComponentLink1URL: http://www.we-online.de; ComponentLink2Description: Datasheet; ComponentLink2URL: https://katalog.we-online.com/pbs/datasheet/7447715100.pdf; Published Date: April 2019; Publisher: Wurth Elektronik; Rated Current: 3.8A; Size: 1245; Inductance: 10uH; Operating Temperature: -40 to +125degC; Mounting Technology: SMT; Packaging: Tape and Reel
footprint WE-PD_1245
pins: 1, 2

## 7447715101
designator L?, comment 100uH, 1.3A
WE-PD SMT Power Inductor, size 1245, 100uH, 1.3A; Part Number: 7447715101; DC Resistance max.: 270mOhm; Self Resonant Frequency: 6.9MHz; Saturation Current: 1.4A; ComponentLink1Description: Manufacturer; ComponentLink1URL: http://www.we-online.de; ComponentLink2Description: Datasheet; ComponentLink2URL: https://katalog.we-online.com/pbs/datasheet/7447715101.pdf; Published Date: April 2019; Publisher: Wurth Elektronik; Rated Current: 1.3A; Size: 1245; Inductance: 100uH; Operating Temperature: -40 to +125degC; Mounting Technology: SMT; Packaging: Tape and Reel
footprint WE-PD_1245
pins: 1, 2

## 7447715120
designator L?, comment 12uH, 3.5A
WE-PD SMT Power Inductor, size 1245, 12uH, 3.5A; Part Number: 7447715120; DC Resistance max.: 38mOhm; Self Resonant Frequency: 19MHz; Saturation Current: 3.6A; ComponentLink1Description: Manufacturer; ComponentLink1URL: http://www.we-online.de; ComponentLink2Description: Datasheet; ComponentLink2URL: https://katalog.we-online.com/pbs/datasheet/7447715120.pdf; Published Date: April 2019; Publisher: Wurth Elektronik; Rated Current: 3.5A; Size: 1245; Inductance: 12uH; Operating Temperature: -40 to +125degC; Mounting Technology: SMT; Packaging: Tape and Reel
footprint WE-PD_1245
pins: 1, 2

## 7447715180
designator L?, comment 18uH, 3.2A
WE-PD SMT Power Inductor, size 1245, 18uH, 3.2A; Part Number: 7447715180; DC Resistance max.: 51mOhm; Self Resonant Frequency: 17MHz; ComponentLink1Description: Manufacturer; ComponentLink1URL: http://www.we-online.de; ComponentLink2Description: Datasheet; ComponentLink2URL: https://katalog.we-online.com/pbs/datasheet/7447715180.pdf; Published Date: April 2019; Publisher: Wurth Elektronik; Rated Current: 3.2A; Size: 1245; Inductance: 18uH; Operating Temperature: -40 to +125degC; Mounting Technology: SMT; Packaging: Tape and Reel; Saturation Current: 3.2A
footprint WE-PD_1245
pins: 1, 2

## 7447715220
designator L?, comment 22uH, 2.9A
WE-PD SMT Power Inductor, size 1245, 22uH, 2.9A; Part Number: 7447715220; DC Resistance max.: 65mOhm; Self Resonant Frequency: 15.5MHz; Saturation Current: 3.1A; ComponentLink1Description: Manufacturer; ComponentLink1URL: http://www.we-online.de; ComponentLink2Description: Datasheet; ComponentLink2URL: https://katalog.we-online.com/pbs/datasheet/7447715220.pdf; Published Date: April 2019; Publisher: Wurth Elektronik; Rated Current: 2.9A; Size: 1245; Inductance: 22uH; Operating Temperature: -40 to +125degC; Mounting Technology: SMT; Packaging: Tape and Reel
footprint WE-PD_1245
pins: 1, 2

## 7447715221
designator L?, comment 220uH, 0.95A
WE-PD SMT Power Inductor, size 1245, 220uH, 0.95A; Part Number: 7447715221; DC Resistance max.: 480mOhm; Self Resonant Frequency: 4.7MHz; Saturation Current: 1A; ComponentLink1Description: Manufacturer; ComponentLink1URL: http://www.we-online.de; ComponentLink2Description: Datasheet; ComponentLink2URL: https://katalog.we-online.com/pbs/datasheet/7447715221.pdf; Published Date: April 2019; Publisher: Wurth Elektronik; Rated Current: 0.95A; Size: 1245; Inductance: 220uH; Operating Temperature: -40 to +125degC; Mounting Technology: SMT; Packaging: Tape and Reel
footprint WE-PD_1245
pins: 1, 2

## 7447715330
designator L?, comment 33uH, 2.3A
WE-PD SMT Power Inductor, size 1245, 33uH, 2.3A; Part Number: 7447715330; DC Resistance max.: 85mOhm; Self Resonant Frequency: 13MHz; Saturation Current: 2.5A; ComponentLink1Description: Manufacturer; ComponentLink1URL: http://www.we-online.de; ComponentLink2Description: Datasheet; ComponentLink2URL: https://katalog.we-online.com/pbs/datasheet/7447715330.pdf; Published Date: April 2019; Publisher: Wurth Elektronik; Rated Current: 2.3A; Size: 1245; Inductance: 33uH; Operating Temperature: -40 to +125degC; Mounting Technology: SMT; Packaging: Tape and Reel
footprint WE-PD_1245
pins: 1, 2

## 7447715470
designator L?, comment 47uH, 1.95A
WE-PD SMT Power Inductor, size 1245, 47uH, 1.95A; Part Number: 7447715470; DC Resistance max.: 125mOhm; Self Resonant Frequency: 9.7MHz; Saturation Current: 2.1A; ComponentLink1Description: Manufacturer; ComponentLink1URL: http://www.we-online.de; ComponentLink2Description: Datasheet; ComponentLink2URL: https://katalog.we-online.com/pbs/datasheet/7447715470.pdf; Published Date: April 2019; Publisher: Wurth Elektronik; Rated Current: 1.95A; Size: 1245; Inductance: 47uH; Operating Temperature: -40 to +125degC; Mounting Technology: SMT; Packaging: Tape and Reel
footprint WE-PD_1245
pins: 1, 2

## 7447715906
designator L?, comment 0.6uH, 9.5A
WE-PD SMT Power Inductor, size 1245, 0.6uH, 9.5A; Part Number: 7447715906; DC Resistance max.: 5.5mOhm; Self Resonant Frequency: 160MHz; Saturation Current: 19A; ComponentLink1Description: Manufacturer; ComponentLink1URL: http://www.we-online.de; ComponentLink2Description: Datasheet; ComponentLink2URL: https://katalog.we-online.com/pbs/datasheet/7447715906.pdf; Published Date: April 2019; Publisher: Wurth Elektronik; Rated Current: 9.5A; Size: 1245; Inductance: 0.6uH; Operating Temperature: -40 to +125degC; Mounting Technology: SMT; Packaging: Tape and Reel
footprint WE-PD_1245
pins: 1, 2

## 7447715910
designator L?, comment 1uH, 8.5A
WE-PD SMT Power Inductor, size 1245, 1uH, 8.5A; Part Number: 7447715910; DC Resistance max.: 7mOhm; Self Resonant Frequency: 98MHz; Saturation Current: 13.9A; ComponentLink1Description: Manufacturer; ComponentLink1URL: http://www.we-online.de; ComponentLink2Description: Datasheet; ComponentLink2URL: https://katalog.we-online.com/pbs/datasheet/7447715910.pdf; Published Date: April 2019; Publisher: Wurth Elektronik; Rated Current: 8.5A; Size: 1245; Inductance: 1uH; Operating Temperature: -40 to +125degC; Mounting Technology: SMT; Packaging: Tape and Reel
footprint WE-PD_1245
pins: 1, 2


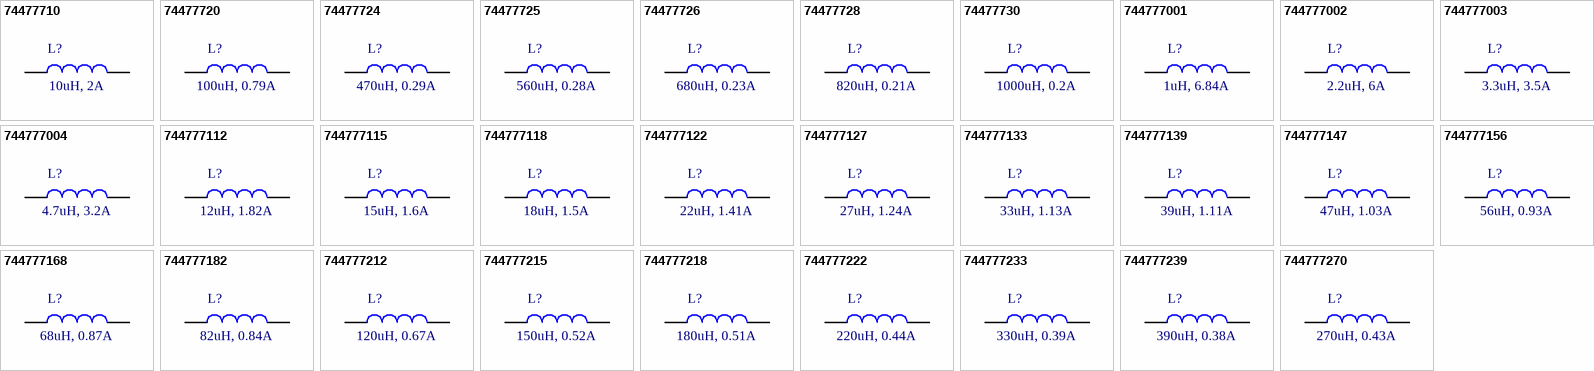
[diagram p7: symbols 74477710 to 744777270]

## 74477710
designator L?, comment 10uH, 2A
WE-PD SMT Power Inductor, size 7345, 10uH, 2A; Part Number: 74477710; DC Resistance max.: 49mOhm; Self Resonant Frequency: 26MHz; Saturation Current: 2.6A; ComponentLink1Description: Manufacturer; ComponentLink1URL: http://www.we-online.de; ComponentLink2Description: Datasheet; ComponentLink2URL: https://katalog.we-online.com/pbs/datasheet/74477710.pdf; Published Date: April 2019; Publisher: Wurth Elektronik; Rated Current: 2A; Size: 7345; Inductance: 10uH; Operating Temperature: -40 to +125degC; Mounting Technology: SMT; Packaging: Tape and Reel
footprint WE-PD_7345
pins: 1, 2

## 74477720
designator L?, comment 100uH, 0.79A
WE-PD SMT Power Inductor, size 7345, 100uH, 0.79A; Part Number: 74477720; DC Resistance max.: 610mOhm; Self Resonant Frequency: 7.5MHz; Saturation Current: 0.75A; ComponentLink1Description: Manufacturer; ComponentLink1URL: http://www.we-online.de; ComponentLink2Description: Datasheet; ComponentLink2URL: https://katalog.we-online.com/pbs/datasheet/74477720.pdf; Published Date: April 2019; Publisher: Wurth Elektronik; Rated Current: 0.79A; Size: 7345; Inductance: 100uH; Operating Temperature: -40 to +125degC; Mounting Technology: SMT; Packaging: Tape and Reel
footprint WE-PD_7345
pins: 1, 2

## 74477724
designator L?, comment 470uH, 0.29A
WE-PD SMT Power Inductor, size 7345, 470uH, 0.29A; Part Number: 74477724; DC Resistance max.: 3010mOhm; Self Resonant Frequency: 3.2MHz; Saturation Current: 0.34A; ComponentLink1Description: Manufacturer; ComponentLink1URL: http://www.we-online.de; ComponentLink2Description: Datasheet; ComponentLink2URL: https://katalog.we-online.com/pbs/datasheet/74477724.pdf; Published Date: April 2019; Publisher: Wurth Elektronik; Rated Current: 0.29A; Size: 7345; Inductance: 470uH; Operating Temperature: -40 to +125degC; Mounting Technology: SMT; Packaging: Tape and Reel
footprint WE-PD_7345
pins: 1, 2

## 74477725
designator L?, comment 560uH, 0.28A
WE-PD SMT Power Inductor, size 7345, 560uH, 0.28A; Part Number: 74477725; DC Resistance max.: 3620mOhm; Self Resonant Frequency: 3MHz; Saturation Current: 0.31A; ComponentLink1Description: Manufacturer; ComponentLink1URL: http://www.we-online.de; ComponentLink2Description: Datasheet; ComponentLink2URL: https://katalog.we-online.com/pbs/datasheet/74477725.pdf; Published Date: April 2019; Publisher: Wurth Elektronik; Rated Current: 0.28A; Size: 7345; Inductance: 560uH; Operating Temperature: -40 to +125degC; Mounting Technology: SMT; Packaging: Tape and Reel
footprint WE-PD_7345
pins: 1, 2

## 74477726
designator L?, comment 680uH, 0.23A
WE-PD SMT Power Inductor, size 7345, 680uH, 0.23A; Part Number: 74477726; DC Resistance max.: 4630mOhm; Self Resonant Frequency: 2.7MHz; Saturation Current: 0.28A; ComponentLink1Description: Manufacturer; ComponentLink1URL: http://www.we-online.de; ComponentLink2Description: Datasheet; ComponentLink2URL: https://katalog.we-online.com/pbs/datasheet/74477726.pdf; Published Date: April 2019; Publisher: Wurth Elektronik; Rated Current: 0.23A; Size: 7345; Inductance: 680uH; Operating Temperature: -40 to +125degC; Mounting Technology: SMT; Packaging: Tape and Reel
footprint WE-PD_7345
pins: 1, 2

## 74477728
designator L?, comment 820uH, 0.21A
WE-PD SMT Power Inductor, size 7345, 820uH, 0.21A; Part Number: 74477728; DC Resistance max.: 5200mOhm; Self Resonant Frequency: 2.5MHz; Saturation Current: 0.26A; ComponentLink1Description: Manufacturer; ComponentLink1URL: http://www.we-online.de; ComponentLink2Description: Datasheet; ComponentLink2URL: https://katalog.we-online.com/pbs/datasheet/74477728.pdf; Published Date: April 2019; Publisher: Wurth Elektronik; Rated Current: 0.21A; Size: 7345; Inductance: 820uH; Operating Temperature: -40 to +125degC; Mounting Technology: SMT; Packaging: Tape and Reel
footprint WE-PD_7345
pins: 1, 2

## 74477730
designator L?, comment 1000uH, 0.2A
WE-PD SMT Power Inductor, size 7345, 1000uH, 0.2A; Part Number: 74477730; DC Resistance max.: 6000mOhm; Self Resonant Frequency: 2.2MHz; Saturation Current: 0.25A; ComponentLink1Description: Manufacturer; ComponentLink1URL: http://www.we-online.de; ComponentLink2Description: Datasheet; ComponentLink2URL: https://katalog.we-online.com/pbs/datasheet/74477730.pdf; Published Date: April 2019; Publisher: Wurth Elektronik; Rated Current: 0.2A; Size: 7345; Inductance: 1000uH; Operating Temperature: -40 to +125degC; Mounting Technology: SMT; Packaging: Tape and Reel
footprint WE-PD_7345
pins: 1, 2